# Altium footprint library USB.PcbLib: 10 footprints
Each footprint in its own frame and in the unit in brackets; x right, y up, seen from the top. Pads: shape width x height; smd on the part's side, far side on the other; paste and mask are expansions set on the pad; w line width, h text height; cw(c..) or ccw(c..) is an arc to the next point about the centre after c.
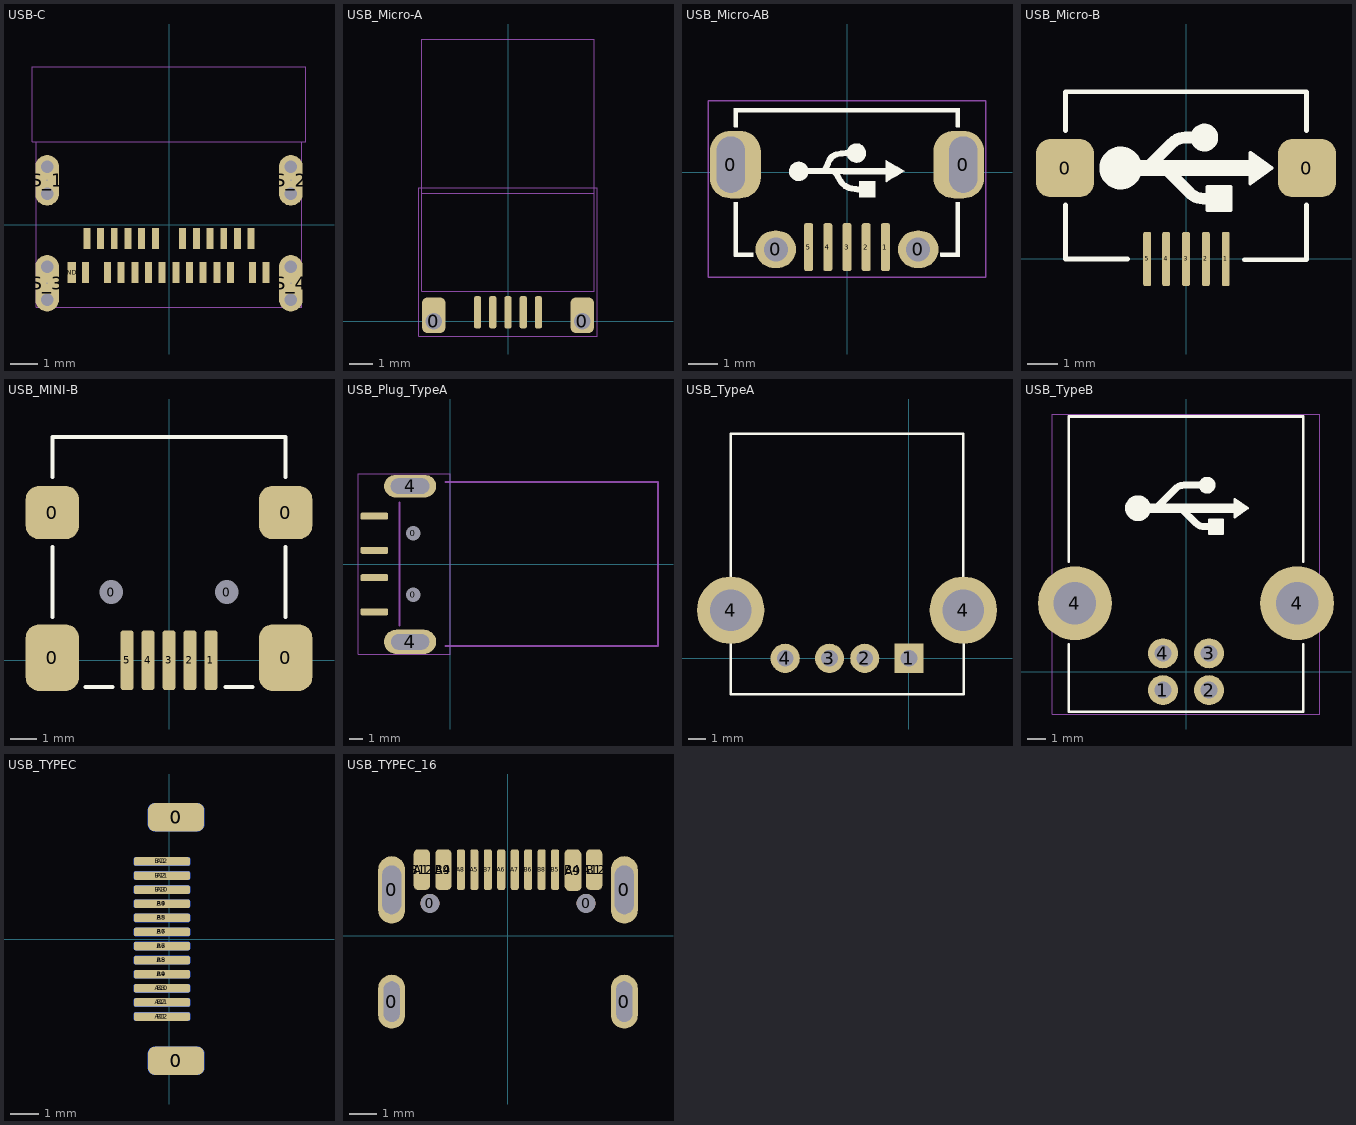
[diagram p0: the footprints below, top view; thin cyan lines are the x and y axes]

## USB-C [mil]
pads (38):
  rect 10x30 smd paste+0 mask+0: A1(-120.08,-68.99) A2(-88.58,-68.99) A3(-68.9,-68.99) A4(-49.21,-68.99) A5(-29.53,-68.99) A6(-9.84,-68.99) A7(9.84,-68.99) A8(29.53,-68.99) A9(49.21,-68.99) A10(68.9,-68.99) A11(88.58,-68.99) A12(120.08,-68.99) B1(118.11,-19.78) B2(98.42,-19.78) B3(78.74,-19.78) B4(59.05,-19.78) B5(39.37,-19.78) B6(19.68,-19.78) B7(-19.68,-19.78) B8(-39.37,-19.78) B9(-59.06,-19.78) B10(-78.74,-19.78) B11(-98.43,-19.78) B12(-118.11,-19.78) GND2(139.76,-68.99)
  rect 12x30 smd: GND1(-139.76,-68.99)
  oval 34x73 hole 1 mask+0: S_1(-175.2,63.88) S_2(175.2,63.88)
  round 18 hole 18: S_1_H1(-175.2,83.38) S_1_H2(-175.2,44.38) S_2_H1(175.2,83.38) S_2_H2(175.2,44.38) S_3_H1(-175.2,-60.65) S_3_H2(-175.2,-107.65) S_4_H1(175.2,-60.65) S_4_H2(175.2,-107.65)
  oval 34x81 hole 1 mask+0: S_3(-175.2,-84.15) S_4(175.2,-84.15)
Mechanical 13:
  lines w1: -197,119 197,119 197,227.27 -197,227.27 -197,119 ; -191,-119 191,-119 191,119 -191,119 -191,-119
Multi-Layer:
  lines w18: -175.2,-107.65 -175.2,-60.65 ; -175.2,44.38 -175.2,83.38 ; 175.2,-107.65 175.2,-60.65 ; 175.2,44.38 175.2,83.38
3D body "c-2305018-2-a-3d.stp": height 138.91, standoff -20.8, extent -193.87,-115.17 193.4,225.38

## USB_Micro-A [mil]
height 153.54
pads (7):
  rrect50% 40x60 hole 28 copper offset 0,10: 0(-125,0) 0(125,0)
  rrect50% 12x54 smd: 1(-51.18,15) 2(-25.59,15) 3(0,15) 4(25.59,15) 5(51.18,15)
Mechanical 13:
  lines w2: -145,215 145,215 ; -145,50 -145,475 145,475 145,50 -145,50
Mechanical 14:
  lines w2: -150,-25 -150,225 150,225 150,-25 -150,-25
  text ".Designator" at -90,80 h100
3D body "UJ2-MIBH-4-SMT.stp": height 108.27, standoff -24.02, extent -147.64,-15 147.64,449.57

## USB_Micro-AB [mil]
height 153.54
pads (9):
  rrect80% 68x90 hole 37 slot 75 at 90 deg copper offset 6,0 mask+0: 0(-155,10)
  oval 54x50 hole 32 mask+0: 0(-95,-103) 0(95,-103)
  rrect80% 68x90 hole 37 slot 75 at 90 deg copper offset -6,0 mask+0: 0(155,10)
  rrect50% 12x64 smd: 1(51.18,-100) 2(25.59,-100) 3(0,-100) 4(-25.59,-100) 5(-51.18,-100)
Top Overlay:
  drawing of 24 lines, arcs and shapes, not listed
Mechanical 14:
  lines w2: -185,-140 185,-140 185,95 -185,95 -185,-140
  text ".Designator" at -90,-45 h100
3D body "User Library-MicroUSB-B_Molex_105017-0001.STEP": height 108.07, standoff -21.85, extent -161.42,-109.33 161.42,104.45

## USB_Micro-B [mil]
height 153.54
pads (7):
  rrect50% 74.8x74.8 smd: 0(-155.51,116.84) 0(155.51,116.84)
  rrect50% 10x70 smd: 1(51.18,0) 2(25.59,0) 3(0,0) 4(-25.59,0) 5(-50,0)
Top Overlay:
  circle w35: c-84.07,117 r10
  circle w20: c23.56,156.21 r7.87
  region: 110.18,117 82.62,97.31 82.62,136.69
  region: 57.03,62.87 27.5,62.87 27.5,92.39 57.03,92.39
  lines w5: 27.5,62.87 27.5,92.39 57.03,92.39 57.03,62.87 27.5,62.87 ; 82.62,97.31 110.18,117 82.62,136.69 82.62,97.31
  lines w6: -155,69.8 -155,0 -75,0 ; -155,164.84 -155,215 155,215 155,164.84 ; 75,-1 155,-1 155,69.8
  lines w15: -52.85,114.46 -18.48,148.83 cw(c-0.65,131) -0.65,156.21 22.5,156.21 ; -24.7,114.54 4.83,85.01 ccw(c22.66,102.84) 22.66,77.63 42.5,77.63
  lines w20: -82.5,117 92.5,117
3D body "Micro USB.STP": height 106.7, standoff -9.04, extent -156.58,4.51 157.59,218.29

## USB_MINI-B [mil]
height 153.54
pads (11):
  rrect50% 80x100 smd: 0(-175.2,3.94) 0(175.19,3.94)
  rrect50% 80x80 smd: 0(-175.2,221.69) 0(175.19,221.69)
  round 23.62 hole 35.43 unplated: 0(-86.61,102.36) 0(86.61,102.36)
  rrect50% 20x90 smd: 1(62.99,0) 2(31.5,0) 3(0,0) 4(-31.5,0) 5(-62.99,0)
Top Overlay:
  lines w6: -175,65 -175,170 ; -175,275 -175,335 175,335 175,275 ; -125,-40 -85,-40 ; 85,-40 125,-40 ; 175,65 175,170
3D body "User Library-USB_mini_B.STEP": height 155.51, standoff -39.37, extent -210.63,-27.56 210.63,334.64

## USB_Plug_TypeA [mil]
height 177.17
pads (8):
  round 32 hole 42: 0(-106.3,-88.58) 0(-106.3,88.58)
  rrect50% 80x20 smd: 1(-218,137.8) 2(-218,39.37) 3(-218,-39.37) 4(-218,-137.8)
  oval 150x70 hole 45 slot 110 at 0 deg: 4(-115,-224)
  oval 150x65 hole 45 slot 111 at 0 deg: 4(-115,224)
Mechanical 13:
  lines w6: -145.67,-176.18 -145.67,176.18 ; -12.99,-236.22 598.43,-236.22 598.43,236.22 -12.99,236.22
Mechanical 14:
  lines w2: -265,-260 -265,260 0,260 0,-260 -265,-260
  text ".Designator" at -220,-25 h100
3D body "SW3dPS-USB-Male Port.STEP": height 70, standoff -117.5, extent -145.67,-236.37 576.08,236.37

## USB_TypeA [mil]
pads (6):
  rect 65x65 hole 37: 1(0,0)
  round 65 hole 37: 2(-98.5,0) 3(-177,0) 4(-275.6,0)
  round 150 hole 93: 4(-397,107) 4(121,107)
Top Overlay:
  lines w6: 121,107 121,500 -397,500 -397,107 -397,-80 122,-80 122,107
3D body "User Library-USB-A-01.step": height 274.23, standoff -164.75, extent -449.02,-45 173.03,494.37

## USB_TypeB [mm]
height 11.1
pads (6):
  round 1.626 hole 0.914 mask+0.025: 1(-1.25,-0.995) 2(1.25,-0.995) 3(1.25,1.005) 4(-1.25,1.005)
  round 4 hole 2.3 mask+0: 4(-6.02,3.715) 4(6.02,3.715)
Top Overlay:
  circle w0.508: c1.145,10.115 r0.2
  circle w0.889: c-2.605,8.865 r0.254
  region: 1.995,7.49 1.245,7.49 1.245,8.24 1.995,8.24
  region: 3.345,8.865 2.645,8.365 2.645,9.365
  lines w0.127: 1.245,7.49 1.995,7.49 1.995,8.24 1.245,8.24 1.245,7.49 ; 2.645,8.365 2.645,9.365 3.345,8.865 2.645,8.365
  lines w0.152: -6.35,1.495 -6.35,-2.159 6.35,-2.159 6.35,1.495 ; -6.35,5.969 -6.35,13.843 6.35,13.843 6.35,5.969
  lines w0.381: -1.558,8.927 -0.558,9.927 cw(c-0.105,9.474) -0.105,10.115 1.145,10.115 ; -0.208,8.802 0.542,8.052 ccw(c0.995,8.505) 0.995,7.865 1.245,7.865
  lines w0.508: -2.105,8.865 2.645,8.865
Mechanical 14:
  lines w0.051: -7.239,-2.286 -7.239,13.97 7.239,13.97 7.239,-2.286 -7.239,-2.286
3D body "c-0292304-01-b-3d.stp": height 11.5, standoff -3.93, extent -7.194,-1.705 7.194,13.995

## USB_TYPEC [mm] "USB3.1 TYPEC"
pads (28):
  rrect50% 2x1 smd: 0(0.25,-4.32) 0(0.25,4.32)
  rrect50% 2x1 smd far side: 0(0.25,-4.32) 0(0.25,4.32)
  rrect50% 2x0.3 smd: A1(-0.25,2.75) A2(-0.25,2.25) A3(-0.25,1.75) A4(-0.25,1.25) A5(-0.25,0.75) A6(-0.25,0.25) A7(-0.25,-0.25) A8(-0.25,-0.75) A9(-0.25,-1.25) A10(-0.25,-1.75) A11(-0.25,-2.25) A12(-0.25,-2.75)
  rrect50% 2x0.3 smd far side: B1(-0.25,-2.75) B2(-0.25,-2.25) B3(-0.25,-1.75) B4(-0.25,-1.25) B5(-0.25,-0.75) B6(-0.25,-0.25) B7(-0.25,0.25) B8(-0.25,0.75) B9(-0.25,1.25) B10(-0.25,1.75) B11(-0.25,2.25) B12(-0.25,2.75)
3D body "ausb1-dmn-ptp1.stp": height 1.81, standoff -2.39, extent -1.4,-4.125 11.54,4.125

## USB_TYPEC_16 [mm] "USB3.1 TYPEC"
pads (22):
  oval 1x2 hole 0.6 slot 1.5 at 90 deg: 0(-4.32,-2.438) 0(4.32,-2.438)
  oval 1x2.5 hole 0.7 slot 1.8 at 90 deg: 0(-4.32,1.712) 0(4.32,1.712)
  round 0.7 hole 0.7: 0(-2.9,1.212) 0(2.9,1.212)
  rrect50% 0.6x1.5 smd: A1(-3.2,2.462) A4(-2.4,2.462) A9(2.425,2.425) A12(3.2,2.462) B1(3.2,2.462) B4(2.4,2.462) B9(-2.4,2.462) B12(-3.2,2.462)
  rrect50% 0.3x1.5 smd: A5(-1.25,2.462) A6(-0.25,2.462) A7(0.25,2.462) A8(-1.75,2.462) B5(1.75,2.462) B6(0.75,2.462) B7(-0.75,2.462) B8(1.25,2.462)
Bottom Layer:
  pour cut-out: -4.32,0.412
3D body "User Library-USB Type C Port (SMD Type).STEP": height 3.3, standoff -0.9, extent -4.472,-5 4.468,2.9